# Altium footprint library QFP_Shrink_Sq_40P_Side_N.PcbLib: 26 footprints (part 1 of 3)
Each footprint in its own frame and in the unit in brackets; x right, y up, seen from the top. Pads: shape width x height; smd on the part's side, far side on the other; paste and mask are expansions set on the pad; w line width, h text height; cw(c..) or ccw(c..) is an arc to the next point about the centre after c.
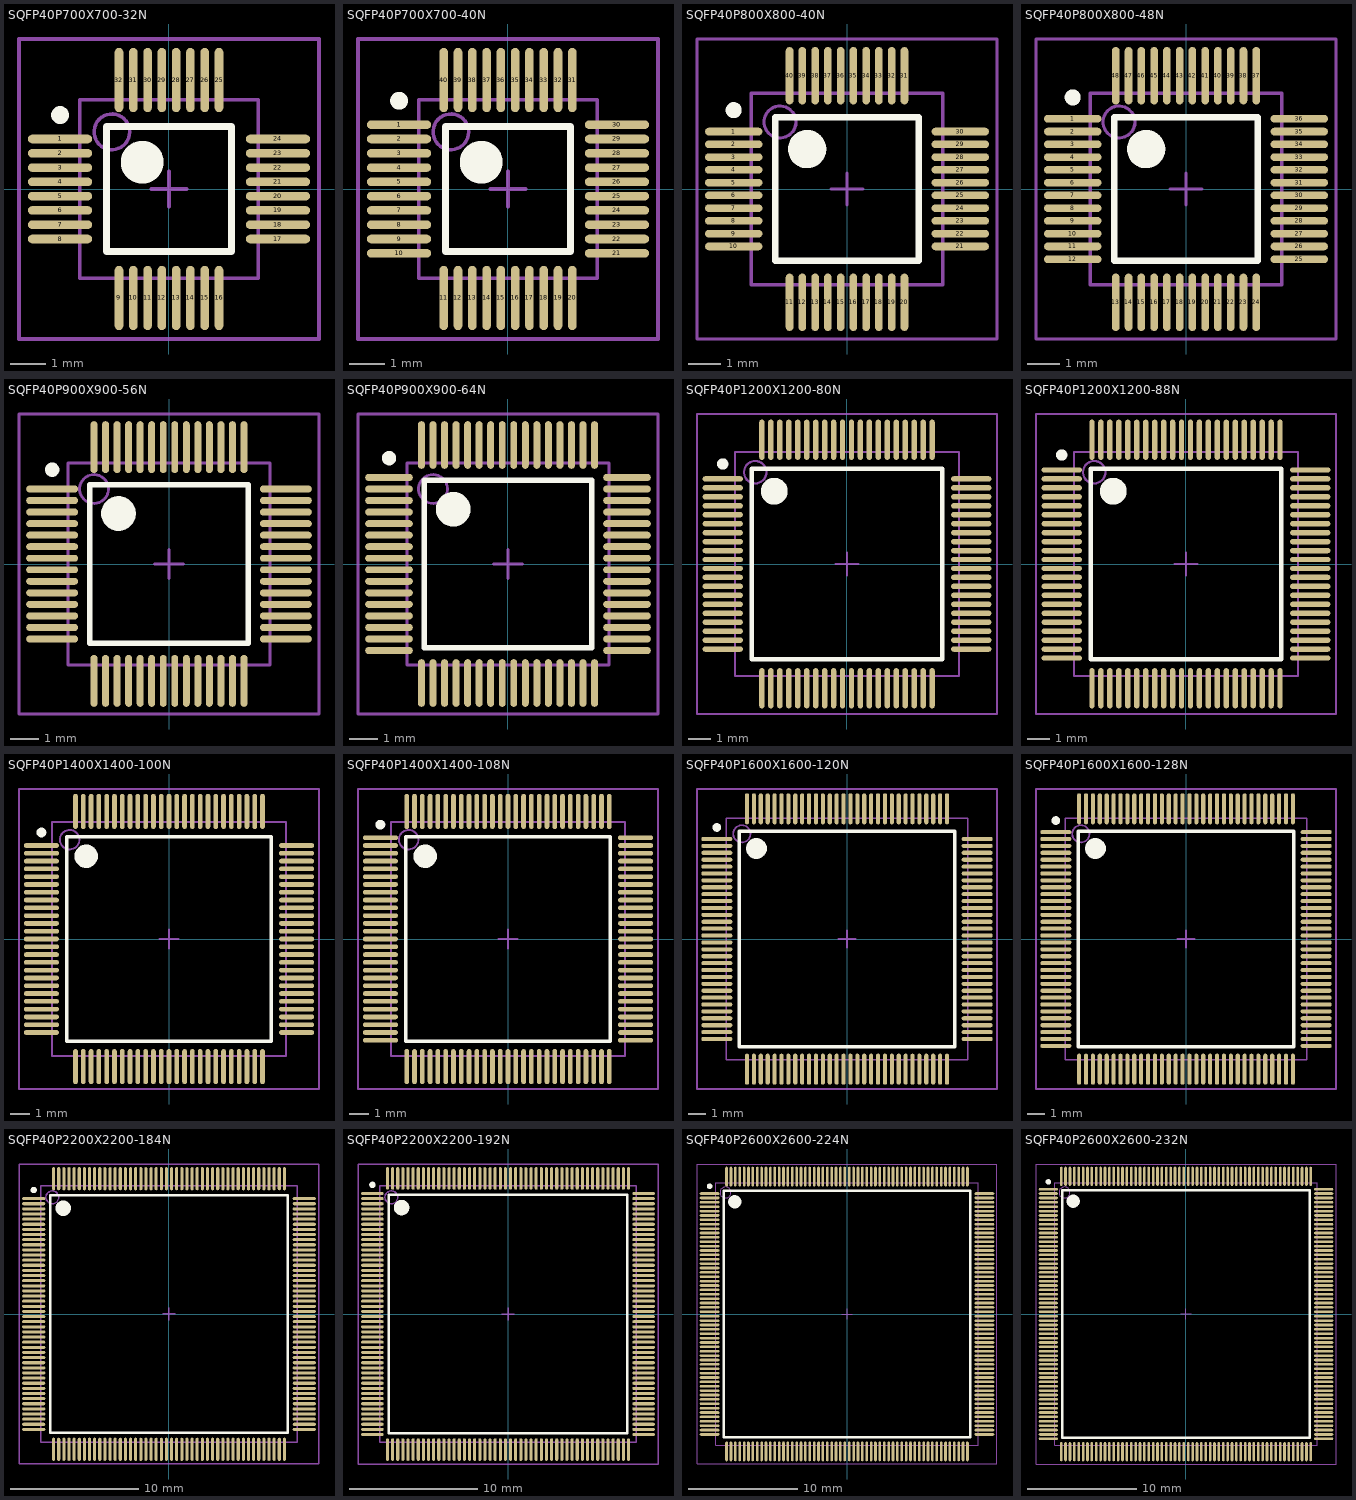
[diagram p0: the footprints below, top view; thin cyan lines are the x and y axes]

## SQFP40P700X700-32N [mm] "Shrink QFP, 32-Leads, Body 5x5mm, Pitch 0.4mm, IPC Medium Density"
height 1.7
pads (32):
  oval 1.8x0.24 smd: 1(-3.05,1.4) 2(-3.05,1) 3(-3.05,0.6) 4(-3.05,0.2) 5(-3.05,-0.2) 6(-3.05,-0.6) 7(-3.05,-1) 8(-3.05,-1.4) 17(3.05,-1.4) 18(3.05,-1) 19(3.05,-0.6) 20(3.05,-0.2) 21(3.05,0.2) 22(3.05,0.6) 23(3.05,1) 24(3.05,1.4)
  oval 0.24x1.8 smd: 9(-1.4,-3.05) 10(-1,-3.05) 11(-0.6,-3.05) 12(-0.2,-3.05) 13(0.2,-3.05) 14(0.6,-3.05) 15(1,-3.05) 16(1.4,-3.05) 25(1.4,3.05) 26(1,3.05) 27(0.6,3.05) 28(0.2,3.05) 29(-0.2,3.05) 30(-0.6,3.05) 31(-1,3.05) 32(-1.4,3.05)
Top Overlay:
  circle w0.6: c-0.75,0.75 r0.3
  circle w0.25: c-3.05,2.07 r0.125
  lines w0.2: -1.75,-1.75 1.75,-1.75 1.75,1.75 -1.75,1.75 -1.75,-1.75
Mechanical 13:
  circle w0.1: c-1.6,1.6 r0.5
  lines w0.1: -2.5,-2.5 2.5,-2.5 2.5,2.5 -2.5,2.5 -2.5,-2.5
Mechanical 15:
  lines w0.1: -0.5,0 0.5,0 ; 0,-0.5 0,0.5 ; -4.2,-4.2 4.2,-4.2 4.2,4.2 -4.2,4.2 -4.2,-4.2
3D body: height 1.7, standoff 0, extent -2.5,-2.5 2.5,2.5

## SQFP40P700X700-40N [mm] "Shrink QFP, 40-Leads, Body 5x5mm, Pitch 0.4mm, IPC Medium Density"
height 1.7
pads (40):
  oval 1.8x0.24 smd: 1(-3.05,1.8) 2(-3.05,1.4) 3(-3.05,1) 4(-3.05,0.6) 5(-3.05,0.2) 6(-3.05,-0.2) 7(-3.05,-0.6) 8(-3.05,-1) 9(-3.05,-1.4) 10(-3.05,-1.8) 21(3.05,-1.8) 22(3.05,-1.4) 23(3.05,-1) 24(3.05,-0.6) 25(3.05,-0.2) 26(3.05,0.2) 27(3.05,0.6) 28(3.05,1) 29(3.05,1.4) 30(3.05,1.8)
  oval 0.24x1.8 smd: 11(-1.8,-3.05) 12(-1.4,-3.05) 13(-1,-3.05) 14(-0.6,-3.05) 15(-0.2,-3.05) 16(0.2,-3.05) 17(0.6,-3.05) 18(1,-3.05) 19(1.4,-3.05) 20(1.8,-3.05) 31(1.8,3.05) 32(1.4,3.05) 33(1,3.05) 34(0.6,3.05) 35(0.2,3.05) 36(-0.2,3.05) 37(-0.6,3.05) 38(-1,3.05) 39(-1.4,3.05) 40(-1.8,3.05)
Top Overlay:
  circle w0.6: c-0.75,0.75 r0.3
  circle w0.25: c-3.05,2.47 r0.125
  lines w0.2: -1.75,-1.75 1.75,-1.75 1.75,1.75 -1.75,1.75 -1.75,-1.75
Mechanical 13:
  circle w0.1: c-1.6,1.6 r0.5
  lines w0.1: -2.5,-2.5 2.5,-2.5 2.5,2.5 -2.5,2.5 -2.5,-2.5
Mechanical 15:
  lines w0.1: -0.5,0 0.5,0 ; 0,-0.5 0,0.5 ; -4.2,-4.2 4.2,-4.2 4.2,4.2 -4.2,4.2 -4.2,-4.2
3D body: height 1.7, standoff 0, extent -2.5,-2.5 2.5,2.5

## SQFP40P800X800-40N [mm] "Shrink QFP, 40-Leads, Body 6x6mm, Pitch 0.4mm, IPC Medium Density"
height 1.7
pads (40):
  oval 1.8x0.24 smd: 1(-3.55,1.8) 2(-3.55,1.4) 3(-3.55,1) 4(-3.55,0.6) 5(-3.55,0.2) 6(-3.55,-0.2) 7(-3.55,-0.6) 8(-3.55,-1) 9(-3.55,-1.4) 10(-3.55,-1.8) 21(3.55,-1.8) 22(3.55,-1.4) 23(3.55,-1) 24(3.55,-0.6) 25(3.55,-0.2) 26(3.55,0.2) 27(3.55,0.6) 28(3.55,1) 29(3.55,1.4) 30(3.55,1.8)
  oval 0.24x1.8 smd: 11(-1.8,-3.55) 12(-1.4,-3.55) 13(-1,-3.55) 14(-0.6,-3.55) 15(-0.2,-3.55) 16(0.2,-3.55) 17(0.6,-3.55) 18(1,-3.55) 19(1.4,-3.55) 20(1.8,-3.55) 31(1.8,3.55) 32(1.4,3.55) 33(1,3.55) 34(0.6,3.55) 35(0.2,3.55) 36(-0.2,3.55) 37(-0.6,3.55) 38(-1,3.55) 39(-1.4,3.55) 40(-1.8,3.55)
Top Overlay:
  circle w0.6: c-1.25,1.25 r0.3
  circle w0.25: c-3.55,2.47 r0.125
  lines w0.2: -2.25,-2.25 2.25,-2.25 2.25,2.25 -2.25,2.25 -2.25,-2.25
Mechanical 13:
  circle w0.1: c-2.1,2.1 r0.5
  lines w0.1: -3,-3 3,-3 3,3 -3,3 -3,-3
Mechanical 15:
  lines w0.1: -0.5,0 0.5,0 ; 0,-0.5 0,0.5 ; -4.7,-4.7 4.7,-4.7 4.7,4.7 -4.7,4.7 -4.7,-4.7
3D body: height 1.7, standoff 0, extent -3,-3 3,3

## SQFP40P800X800-48N [mm] "Shrink QFP, 48-Leads, Body 6x6mm, Pitch 0.4mm, IPC Medium Density"
height 1.7
pads (48):
  oval 1.8x0.24 smd: 1(-3.55,2.2) 2(-3.55,1.8) 3(-3.55,1.4) 4(-3.55,1) 5(-3.55,0.6) 6(-3.55,0.2) 7(-3.55,-0.2) 8(-3.55,-0.6) 9(-3.55,-1) 10(-3.55,-1.4) 11(-3.55,-1.8) 12(-3.55,-2.2) 25(3.55,-2.2) 26(3.55,-1.8) 27(3.55,-1.4) 28(3.55,-1) 29(3.55,-0.6) 30(3.55,-0.2) 31(3.55,0.2) 32(3.55,0.6) 33(3.55,1) 34(3.55,1.4) 35(3.55,1.8) 36(3.55,2.2)
  oval 0.24x1.8 smd: 13(-2.2,-3.55) 14(-1.8,-3.55) 15(-1.4,-3.55) 16(-1,-3.55) 17(-0.6,-3.55) 18(-0.2,-3.55) 19(0.2,-3.55) 20(0.6,-3.55) 21(1,-3.55) 22(1.4,-3.55) 23(1.8,-3.55) 24(2.2,-3.55) 37(2.2,3.55) 38(1.8,3.55) 39(1.4,3.55) 40(1,3.55) 41(0.6,3.55) 42(0.2,3.55) 43(-0.2,3.55) 44(-0.6,3.55) 45(-1,3.55) 46(-1.4,3.55) 47(-1.8,3.55) 48(-2.2,3.55)
Top Overlay:
  circle w0.6: c-1.25,1.25 r0.3
  circle w0.25: c-3.55,2.87 r0.125
  lines w0.2: -2.25,-2.25 2.25,-2.25 2.25,2.25 -2.25,2.25 -2.25,-2.25
Mechanical 13:
  circle w0.1: c-2.1,2.1 r0.5
  lines w0.1: -3,-3 3,-3 3,3 -3,3 -3,-3
Mechanical 15:
  lines w0.1: -0.5,0 0.5,0 ; 0,-0.5 0,0.5 ; -4.7,-4.7 4.7,-4.7 4.7,4.7 -4.7,4.7 -4.7,-4.7
3D body: height 1.7, standoff 0, extent -3,-3 3,3

## SQFP40P900X900-56N [mm] "Shrink QFP, 56-Leads, Body 7x7mm, Pitch 0.4mm, IPC Medium Density"
height 1.7
pads (56):
  oval 1.8x0.24 smd: 1(-4.05,2.6) 2(-4.05,2.2) 3(-4.05,1.8) 4(-4.05,1.4) 5(-4.05,1) 6(-4.05,0.6) 7(-4.05,0.2) 8(-4.05,-0.2) 9(-4.05,-0.6) 10(-4.05,-1) 11(-4.05,-1.4) 12(-4.05,-1.8) 13(-4.05,-2.2) 14(-4.05,-2.6) 29(4.05,-2.6) 30(4.05,-2.2) 31(4.05,-1.8) 32(4.05,-1.4) 33(4.05,-1) 34(4.05,-0.6) 35(4.05,-0.2) 36(4.05,0.2) 37(4.05,0.6) 38(4.05,1) 39(4.05,1.4) 40(4.05,1.8) 41(4.05,2.2) 42(4.05,2.6)
  oval 0.24x1.8 smd: 15(-2.6,-4.05) 16(-2.2,-4.05) 17(-1.8,-4.05) 18(-1.4,-4.05) 19(-1,-4.05) 20(-0.6,-4.05) 21(-0.2,-4.05) 22(0.2,-4.05) 23(0.6,-4.05) 24(1,-4.05) 25(1.4,-4.05) 26(1.8,-4.05) 27(2.2,-4.05) 28(2.6,-4.05) 43(2.6,4.05) 44(2.2,4.05) 45(1.8,4.05) 46(1.4,4.05) 47(1,4.05) 48(0.6,4.05) 49(0.2,4.05) 50(-0.2,4.05) 51(-0.6,4.05) 52(-1,4.05) 53(-1.4,4.05) 54(-1.8,4.05) 55(-2.2,4.05) 56(-2.6,4.05)
Top Overlay:
  circle w0.6: c-1.75,1.75 r0.3
  circle w0.25: c-4.05,3.27 r0.125
  lines w0.2: -2.75,-2.75 2.75,-2.75 2.75,2.75 -2.75,2.75 -2.75,-2.75
Mechanical 13:
  circle w0.1: c-2.6,2.6 r0.5
  lines w0.1: -3.5,-3.5 3.5,-3.5 3.5,3.5 -3.5,3.5 -3.5,-3.5
Mechanical 15:
  lines w0.1: -0.5,0 0.5,0 ; 0,-0.5 0,0.5 ; -5.2,-5.2 5.2,-5.2 5.2,5.2 -5.2,5.2 -5.2,-5.2
3D body: height 1.7, standoff 0, extent -3.5,-3.5 3.5,3.5

## SQFP40P900X900-64N [mm] "Shrink QFP, 64-Leads, Body 7x7mm, Pitch 0.4mm, IPC Medium Density"
height 1.7
pads (64):
  oval 1.65x0.24 smd: 1(-4.125,3) 2(-4.125,2.6) 3(-4.125,2.2) 4(-4.125,1.8) 5(-4.125,1.4) 6(-4.125,1) 7(-4.125,0.6) 8(-4.125,0.2) 9(-4.125,-0.2) 10(-4.125,-0.6) 11(-4.125,-1) 12(-4.125,-1.4) 13(-4.125,-1.8) 14(-4.125,-2.2) 15(-4.125,-2.6) 16(-4.125,-3) 33(4.125,-3) 34(4.125,-2.6) 35(4.125,-2.2) 36(4.125,-1.8) 37(4.125,-1.4) 38(4.125,-1) 39(4.125,-0.6) 40(4.125,-0.2) 41(4.125,0.2) 42(4.125,0.6) 43(4.125,1) 44(4.125,1.4) 45(4.125,1.8) 46(4.125,2.2) 47(4.125,2.6) 48(4.125,3)
  oval 0.24x1.65 smd: 17(-3,-4.125) 18(-2.6,-4.125) 19(-2.2,-4.125) 20(-1.8,-4.125) 21(-1.4,-4.125) 22(-1,-4.125) 23(-0.6,-4.125) 24(-0.2,-4.125) 25(0.2,-4.125) 26(0.6,-4.125) 27(1,-4.125) 28(1.4,-4.125) 29(1.8,-4.125) 30(2.2,-4.125) 31(2.6,-4.125) 32(3,-4.125) 49(3,4.125) 50(2.6,4.125) 51(2.2,4.125) 52(1.8,4.125) 53(1.4,4.125) 54(1,4.125) 55(0.6,4.125) 56(0.2,4.125) 57(-0.2,4.125) 58(-0.6,4.125) 59(-1,4.125) 60(-1.4,4.125) 61(-1.8,4.125) 62(-2.2,4.125) 63(-2.6,4.125) 64(-3,4.125)
Top Overlay:
  circle w0.6: c-1.9,1.9 r0.3
  circle w0.25: c-4.125,3.67 r0.125
  lines w0.2: -2.9,-2.9 2.9,-2.9 2.9,2.9 -2.9,2.9 -2.9,-2.9
Mechanical 13:
  circle w0.1: c-2.6,2.6 r0.5
  lines w0.1: -3.5,-3.5 3.5,-3.5 3.5,3.5 -3.5,3.5 -3.5,-3.5
Mechanical 15:
  lines w0.1: -0.5,0 0.5,0 ; 0,-0.5 0,0.5 ; -5.2,-5.2 5.2,-5.2 5.2,5.2 -5.2,5.2 -5.2,-5.2
3D body: height 1.7, standoff 0, extent -3.5,-3.5 3.5,3.5

## SQFP40P1200X1200-80N [mm] "Shrink QFP, 80-Leads, Body 10x10mm, Pitch 0.4mm, IPC Medium Density"
height 2.2
pads (80):
  oval 1.8x0.24 smd: 1(-5.55,3.8) 2(-5.55,3.4) 3(-5.55,3) 4(-5.55,2.6) 5(-5.55,2.2) 6(-5.55,1.8) 7(-5.55,1.4) 8(-5.55,1) 9(-5.55,0.6) 10(-5.55,0.2) 11(-5.55,-0.2) 12(-5.55,-0.6) 13(-5.55,-1) 14(-5.55,-1.4) 15(-5.55,-1.8) 16(-5.55,-2.2) 17(-5.55,-2.6) 18(-5.55,-3) 19(-5.55,-3.4) 20(-5.55,-3.8) 41(5.55,-3.8) 42(5.55,-3.4) 43(5.55,-3) 44(5.55,-2.6) 45(5.55,-2.2) 46(5.55,-1.8) 47(5.55,-1.4) 48(5.55,-1) 49(5.55,-0.6) 50(5.55,-0.2) 51(5.55,0.2) 52(5.55,0.6) 53(5.55,1) 54(5.55,1.4) 55(5.55,1.8) 56(5.55,2.2) 57(5.55,2.6) 58(5.55,3) 59(5.55,3.4) 60(5.55,3.8)
  oval 0.24x1.8 smd: 21(-3.8,-5.55) 22(-3.4,-5.55) 23(-3,-5.55) 24(-2.6,-5.55) 25(-2.2,-5.55) 26(-1.8,-5.55) 27(-1.4,-5.55) 28(-1,-5.55) 29(-0.6,-5.55) 30(-0.2,-5.55) 31(0.2,-5.55) 32(0.6,-5.55) 33(1,-5.55) 34(1.4,-5.55) 35(1.8,-5.55) 36(2.2,-5.55) 37(2.6,-5.55) 38(3,-5.55) 39(3.4,-5.55) 40(3.8,-5.55) 61(3.8,5.55) 62(3.4,5.55) 63(3,5.55) 64(2.6,5.55) 65(2.2,5.55) 66(1.8,5.55) 67(1.4,5.55) 68(1,5.55) 69(0.6,5.55) 70(0.2,5.55) 71(-0.2,5.55) 72(-0.6,5.55) 73(-1,5.55) 74(-1.4,5.55) 75(-1.8,5.55) 76(-2.2,5.55) 77(-2.6,5.55) 78(-3,5.55) 79(-3.4,5.55) 80(-3.8,5.55)
Top Overlay:
  circle w0.6: c-3.25,3.25 r0.3
  circle w0.25: c-5.55,4.47 r0.125
  lines w0.2: -4.25,-4.25 4.25,-4.25 4.25,4.25 -4.25,4.25 -4.25,-4.25
Mechanical 13:
  circle w0.1: c-4.1,4.1 r0.5
  lines w0.1: -5,-5 5,-5 5,5 -5,5 -5,-5
Mechanical 15:
  lines w0.1: -0.5,0 0.5,0 ; 0,-0.5 0,0.5 ; -6.7,-6.7 6.7,-6.7 6.7,6.7 -6.7,6.7 -6.7,-6.7
3D body: height 2.2, standoff 0, extent -5,-5 5,5

## SQFP40P1200X1200-88N [mm] "Shrink QFP, 88-Leads, Body 10x10mm, Pitch 0.4mm, IPC Medium Density"
height 2.2
pads (88):
  oval 1.8x0.24 smd: 1(-5.55,4.2) 2(-5.55,3.8) 3(-5.55,3.4) 4(-5.55,3) 5(-5.55,2.6) 6(-5.55,2.2) 7(-5.55,1.8) 8(-5.55,1.4) 9(-5.55,1) 10(-5.55,0.6) 11(-5.55,0.2) 12(-5.55,-0.2) 13(-5.55,-0.6) 14(-5.55,-1) 15(-5.55,-1.4) 16(-5.55,-1.8) 17(-5.55,-2.2) 18(-5.55,-2.6) 19(-5.55,-3) 20(-5.55,-3.4) 21(-5.55,-3.8) 22(-5.55,-4.2) 45(5.55,-4.2) 46(5.55,-3.8) 47(5.55,-3.4) 48(5.55,-3) 49(5.55,-2.6) 50(5.55,-2.2) 51(5.55,-1.8) 52(5.55,-1.4) 53(5.55,-1) 54(5.55,-0.6) 55(5.55,-0.2) 56(5.55,0.2) 57(5.55,0.6) 58(5.55,1) 59(5.55,1.4) 60(5.55,1.8) 61(5.55,2.2) 62(5.55,2.6) 63(5.55,3) 64(5.55,3.4) 65(5.55,3.8) 66(5.55,4.2)
  oval 0.24x1.8 smd: 23(-4.2,-5.55) 24(-3.8,-5.55) 25(-3.4,-5.55) 26(-3,-5.55) 27(-2.6,-5.55) 28(-2.2,-5.55) 29(-1.8,-5.55) 30(-1.4,-5.55) 31(-1,-5.55) 32(-0.6,-5.55) 33(-0.2,-5.55) 34(0.2,-5.55) 35(0.6,-5.55) 36(1,-5.55) 37(1.4,-5.55) 38(1.8,-5.55) 39(2.2,-5.55) 40(2.6,-5.55) 41(3,-5.55) 42(3.4,-5.55) 43(3.8,-5.55) 44(4.2,-5.55) 67(4.2,5.55) 68(3.8,5.55) 69(3.4,5.55) 70(3,5.55) 71(2.6,5.55) 72(2.2,5.55) 73(1.8,5.55) 74(1.4,5.55) 75(1,5.55) 76(0.6,5.55) 77(0.2,5.55) 78(-0.2,5.55) 79(-0.6,5.55) 80(-1,5.55) 81(-1.4,5.55) 82(-1.8,5.55) 83(-2.2,5.55) 84(-2.6,5.55) 85(-3,5.55) 86(-3.4,5.55) 87(-3.8,5.55) 88(-4.2,5.55)
Top Overlay:
  circle w0.6: c-3.25,3.25 r0.3
  circle w0.25: c-5.55,4.87 r0.125
  lines w0.2: -4.25,-4.25 4.25,-4.25 4.25,4.25 -4.25,4.25 -4.25,-4.25
Mechanical 13:
  circle w0.1: c-4.1,4.1 r0.5
  lines w0.1: -5,-5 5,-5 5,5 -5,5 -5,-5
Mechanical 15:
  lines w0.1: -0.5,0 0.5,0 ; 0,-0.5 0,0.5 ; -6.7,-6.7 6.7,-6.7 6.7,6.7 -6.7,6.7 -6.7,-6.7
3D body: height 2.2, standoff 0, extent -5,-5 5,5

## SQFP40P1400X1400-100N [mm] "Shrink QFP, 100-Leads, Body 12x12mm, Pitch 0.4mm, IPC Medium Density"
height 2.2
pads (100):
  oval 1.8x0.24 smd: 1(-6.55,4.8) 2(-6.55,4.4) 3(-6.55,4) 4(-6.55,3.6) 5(-6.55,3.2) 6(-6.55,2.8) 7(-6.55,2.4) 8(-6.55,2) 9(-6.55,1.6) 10(-6.55,1.2) 11(-6.55,0.8) 12(-6.55,0.4) 13(-6.55,0) 14(-6.55,-0.4) 15(-6.55,-0.8) 16(-6.55,-1.2) 17(-6.55,-1.6) 18(-6.55,-2) 19(-6.55,-2.4) 20(-6.55,-2.8) 21(-6.55,-3.2) 22(-6.55,-3.6) 23(-6.55,-4) 24(-6.55,-4.4) 25(-6.55,-4.8) 51(6.55,-4.8) 52(6.55,-4.4) 53(6.55,-4) 54(6.55,-3.6) 55(6.55,-3.2) 56(6.55,-2.8) 57(6.55,-2.4) 58(6.55,-2) 59(6.55,-1.6) 60(6.55,-1.2) 61(6.55,-0.8) 62(6.55,-0.4) 63(6.55,0) 64(6.55,0.4) 65(6.55,0.8) 66(6.55,1.2) 67(6.55,1.6) 68(6.55,2) 69(6.55,2.4) 70(6.55,2.8) 71(6.55,3.2) 72(6.55,3.6) 73(6.55,4) 74(6.55,4.4) 75(6.55,4.8)
  oval 0.24x1.8 smd: 26(-4.8,-6.55) 27(-4.4,-6.55) 28(-4,-6.55) 29(-3.6,-6.55) 30(-3.2,-6.55) 31(-2.8,-6.55) 32(-2.4,-6.55) 33(-2,-6.55) 34(-1.6,-6.55) 35(-1.2,-6.55) 36(-0.8,-6.55) 37(-0.4,-6.55) 38(0,-6.55) 39(0.4,-6.55) 40(0.8,-6.55) 41(1.2,-6.55) 42(1.6,-6.55) 43(2,-6.55) 44(2.4,-6.55) 45(2.8,-6.55) 46(3.2,-6.55) 47(3.6,-6.55) 48(4,-6.55) 49(4.4,-6.55) 50(4.8,-6.55) 76(4.8,6.55) 77(4.4,6.55) 78(4,6.55) 79(3.6,6.55) 80(3.2,6.55) 81(2.8,6.55) 82(2.4,6.55) 83(2,6.55) 84(1.6,6.55) 85(1.2,6.55) 86(0.8,6.55) 87(0.4,6.55) 88(0,6.55) 89(-0.4,6.55) 90(-0.8,6.55) 91(-1.2,6.55) 92(-1.6,6.55) 93(-2,6.55) 94(-2.4,6.55) 95(-2.8,6.55) 96(-3.2,6.55) 97(-3.6,6.55) 98(-4,6.55) 99(-4.4,6.55) 100(-4.8,6.55)
Top Overlay:
  circle w0.6: c-4.25,4.25 r0.3
  circle w0.25: c-6.55,5.47 r0.125
  lines w0.2: -5.25,-5.25 5.25,-5.25 5.25,5.25 -5.25,5.25 -5.25,-5.25
Mechanical 13:
  circle w0.1: c-5.1,5.1 r0.5
  lines w0.1: -6,-6 6,-6 6,6 -6,6 -6,-6
Mechanical 15:
  lines w0.1: -0.5,0 0.5,0 ; 0,-0.5 0,0.5 ; -7.7,-7.7 7.7,-7.7 7.7,7.7 -7.7,7.7 -7.7,-7.7
3D body: height 2.2, standoff 0, extent -6,-6 6,6

## SQFP40P1400X1400-108N [mm] "Shrink QFP, 108-Leads, Body 12x12mm, Pitch 0.4mm, IPC Medium Density"
height 2.2
pads (108):
  oval 1.8x0.24 smd: 1(-6.55,5.2) 2(-6.55,4.8) 3(-6.55,4.4) 4(-6.55,4) 5(-6.55,3.6) 6(-6.55,3.2) 7(-6.55,2.8) 8(-6.55,2.4) 9(-6.55,2) 10(-6.55,1.6) 11(-6.55,1.2) 12(-6.55,0.8) 13(-6.55,0.4) 14(-6.55,0) 15(-6.55,-0.4) 16(-6.55,-0.8) 17(-6.55,-1.2) 18(-6.55,-1.6) 19(-6.55,-2) 20(-6.55,-2.4) 21(-6.55,-2.8) 22(-6.55,-3.2) 23(-6.55,-3.6) 24(-6.55,-4) 25(-6.55,-4.4) 26(-6.55,-4.8) 27(-6.55,-5.2) 55(6.55,-5.2) 56(6.55,-4.8) 57(6.55,-4.4) 58(6.55,-4) 59(6.55,-3.6) 60(6.55,-3.2) 61(6.55,-2.8) 62(6.55,-2.4) 63(6.55,-2) 64(6.55,-1.6) 65(6.55,-1.2) 66(6.55,-0.8) 67(6.55,-0.4) 68(6.55,0) 69(6.55,0.4) 70(6.55,0.8) 71(6.55,1.2) 72(6.55,1.6) 73(6.55,2) 74(6.55,2.4) 75(6.55,2.8) 76(6.55,3.2) 77(6.55,3.6) 78(6.55,4) 79(6.55,4.4) 80(6.55,4.8) 81(6.55,5.2)
  oval 0.24x1.8 smd: 28(-5.2,-6.55) 29(-4.8,-6.55) 30(-4.4,-6.55) 31(-4,-6.55) 32(-3.6,-6.55) 33(-3.2,-6.55) 34(-2.8,-6.55) 35(-2.4,-6.55) 36(-2,-6.55) 37(-1.6,-6.55) 38(-1.2,-6.55) 39(-0.8,-6.55) 40(-0.4,-6.55) 41(0,-6.55) 42(0.4,-6.55) 43(0.8,-6.55) 44(1.2,-6.55) 45(1.6,-6.55) 46(2,-6.55) 47(2.4,-6.55) 48(2.8,-6.55) 49(3.2,-6.55) 50(3.6,-6.55) 51(4,-6.55) 52(4.4,-6.55) 53(4.8,-6.55) 54(5.2,-6.55) 82(5.2,6.55) 83(4.8,6.55) 84(4.4,6.55) 85(4,6.55) 86(3.6,6.55) 87(3.2,6.55) 88(2.8,6.55) 89(2.4,6.55) 90(2,6.55) 91(1.6,6.55) 92(1.2,6.55) 93(0.8,6.55) 94(0.4,6.55) 95(0,6.55) 96(-0.4,6.55) 97(-0.8,6.55) 98(-1.2,6.55) 99(-1.6,6.55) 100(-2,6.55) 101(-2.4,6.55) 102(-2.8,6.55) 103(-3.2,6.55) 104(-3.6,6.55) 105(-4,6.55) 106(-4.4,6.55) 107(-4.8,6.55) 108(-5.2,6.55)
Top Overlay:
  circle w0.6: c-4.25,4.25 r0.3
  circle w0.25: c-6.55,5.87 r0.125
  lines w0.2: -5.25,-5.25 5.25,-5.25 5.25,5.25 -5.25,5.25 -5.25,-5.25
Mechanical 13:
  circle w0.1: c-5.1,5.1 r0.5
  lines w0.1: -6,-6 6,-6 6,6 -6,6 -6,-6
Mechanical 15:
  lines w0.1: -0.5,0 0.5,0 ; 0,-0.5 0,0.5 ; -7.7,-7.7 7.7,-7.7 7.7,7.7 -7.7,7.7 -7.7,-7.7
3D body: height 2.2, standoff 0, extent -6,-6 6,6

## SQFP40P1600X1600-120N [mm] "Shrink QFP, 120-Leads, Body 14x14mm, Pitch 0.4mm, IPC Medium Density"
height 2.2
pads (120):
  oval 1.8x0.24 smd: 1(-7.55,5.8) 2(-7.55,5.4) 3(-7.55,5) 4(-7.55,4.6) 5(-7.55,4.2) 6(-7.55,3.8) 7(-7.55,3.4) 8(-7.55,3) 9(-7.55,2.6) 10(-7.55,2.2) 11(-7.55,1.8) 12(-7.55,1.4) 13(-7.55,1) 14(-7.55,0.6) 15(-7.55,0.2) 16(-7.55,-0.2) 17(-7.55,-0.6) 18(-7.55,-1) 19(-7.55,-1.4) 20(-7.55,-1.8) 21(-7.55,-2.2) 22(-7.55,-2.6) 23(-7.55,-3) 24(-7.55,-3.4) 25(-7.55,-3.8) 26(-7.55,-4.2) 27(-7.55,-4.6) 28(-7.55,-5) 29(-7.55,-5.4) 30(-7.55,-5.8) 61(7.55,-5.8) 62(7.55,-5.4) 63(7.55,-5) 64(7.55,-4.6) 65(7.55,-4.2) 66(7.55,-3.8) 67(7.55,-3.4) 68(7.55,-3) 69(7.55,-2.6) 70(7.55,-2.2) 71(7.55,-1.8) 72(7.55,-1.4) 73(7.55,-1) 74(7.55,-0.6) 75(7.55,-0.2) 76(7.55,0.2) 77(7.55,0.6) 78(7.55,1) 79(7.55,1.4) 80(7.55,1.8) 81(7.55,2.2) 82(7.55,2.6) 83(7.55,3) 84(7.55,3.4) 85(7.55,3.8) 86(7.55,4.2) 87(7.55,4.6) 88(7.55,5) 89(7.55,5.4) 90(7.55,5.8)
  oval 0.24x1.8 smd: 31(-5.8,-7.55) 32(-5.4,-7.55) 33(-5,-7.55) 34(-4.6,-7.55) 35(-4.2,-7.55) 36(-3.8,-7.55) 37(-3.4,-7.55) 38(-3,-7.55) 39(-2.6,-7.55) 40(-2.2,-7.55) 41(-1.8,-7.55) 42(-1.4,-7.55) 43(-1,-7.55) 44(-0.6,-7.55) 45(-0.2,-7.55) 46(0.2,-7.55) 47(0.6,-7.55) 48(1,-7.55) 49(1.4,-7.55) 50(1.8,-7.55) 51(2.2,-7.55) 52(2.6,-7.55) 53(3,-7.55) 54(3.4,-7.55) 55(3.8,-7.55) 56(4.2,-7.55) 57(4.6,-7.55) 58(5,-7.55) 59(5.4,-7.55) 60(5.8,-7.55) 91(5.8,7.55) 92(5.4,7.55) 93(5,7.55) 94(4.6,7.55) 95(4.2,7.55) 96(3.8,7.55) 97(3.4,7.55) 98(3,7.55) 99(2.6,7.55) 100(2.2,7.55) 101(1.8,7.55) 102(1.4,7.55) 103(1,7.55) 104(0.6,7.55) 105(0.2,7.55) 106(-0.2,7.55) 107(-0.6,7.55) 108(-1,7.55) 109(-1.4,7.55) 110(-1.8,7.55) 111(-2.2,7.55) 112(-2.6,7.55) 113(-3,7.55) 114(-3.4,7.55) 115(-3.8,7.55) 116(-4.2,7.55) 117(-4.6,7.55) 118(-5,7.55) 119(-5.4,7.55) 120(-5.8,7.55)
Top Overlay:
  circle w0.6: c-5.25,5.25 r0.3
  circle w0.25: c-7.55,6.47 r0.125
  lines w0.2: -6.25,-6.25 6.25,-6.25 6.25,6.25 -6.25,6.25 -6.25,-6.25
Mechanical 13:
  circle w0.1: c-6.1,6.1 r0.5
  lines w0.1: -7,-7 7,-7 7,7 -7,7 -7,-7
Mechanical 15:
  lines w0.1: -0.5,0 0.5,0 ; 0,-0.5 0,0.5 ; -8.7,-8.7 8.7,-8.7 8.7,8.7 -8.7,8.7 -8.7,-8.7
3D body: height 2.2, standoff 0, extent -7,-7 7,7

## SQFP40P1600X1600-128N [mm] "Shrink QFP, 128-Leads, Body 14x14mm, Pitch 0.4mm, IPC Medium Density"
height 2.2
pads (128):
  oval 1.8x0.24 smd: 1(-7.55,6.2) 2(-7.55,5.8) 3(-7.55,5.4) 4(-7.55,5) 5(-7.55,4.6) 6(-7.55,4.2) 7(-7.55,3.8) 8(-7.55,3.4) 9(-7.55,3) 10(-7.55,2.6) 11(-7.55,2.2) 12(-7.55,1.8) 13(-7.55,1.4) 14(-7.55,1) 15(-7.55,0.6) 16(-7.55,0.2) 17(-7.55,-0.2) 18(-7.55,-0.6) 19(-7.55,-1) 20(-7.55,-1.4) 21(-7.55,-1.8) 22(-7.55,-2.2) 23(-7.55,-2.6) 24(-7.55,-3) 25(-7.55,-3.4) 26(-7.55,-3.8) 27(-7.55,-4.2) 28(-7.55,-4.6) 29(-7.55,-5) 30(-7.55,-5.4) 31(-7.55,-5.8) 32(-7.55,-6.2) 65(7.55,-6.2) 66(7.55,-5.8) 67(7.55,-5.4) 68(7.55,-5) 69(7.55,-4.6) 70(7.55,-4.2) 71(7.55,-3.8) 72(7.55,-3.4) 73(7.55,-3) 74(7.55,-2.6) 75(7.55,-2.2) 76(7.55,-1.8) 77(7.55,-1.4) 78(7.55,-1) 79(7.55,-0.6) 80(7.55,-0.2) 81(7.55,0.2) 82(7.55,0.6) 83(7.55,1) 84(7.55,1.4) 85(7.55,1.8) 86(7.55,2.2) 87(7.55,2.6) 88(7.55,3) 89(7.55,3.4) 90(7.55,3.8) 91(7.55,4.2) 92(7.55,4.6) 93(7.55,5) 94(7.55,5.4) 95(7.55,5.8) 96(7.55,6.2)
  oval 0.24x1.8 smd: 33(-6.2,-7.55) 34(-5.8,-7.55) 35(-5.4,-7.55) 36(-5,-7.55) 37(-4.6,-7.55) 38(-4.2,-7.55) 39(-3.8,-7.55) 40(-3.4,-7.55) 41(-3,-7.55) 42(-2.6,-7.55) 43(-2.2,-7.55) 44(-1.8,-7.55) 45(-1.4,-7.55) 46(-1,-7.55) 47(-0.6,-7.55) 48(-0.2,-7.55) 49(0.2,-7.55) 50(0.6,-7.55) 51(1,-7.55) 52(1.4,-7.55) 53(1.8,-7.55) 54(2.2,-7.55) 55(2.6,-7.55) 56(3,-7.55) 57(3.4,-7.55) 58(3.8,-7.55) 59(4.2,-7.55) 60(4.6,-7.55) 61(5,-7.55) 62(5.4,-7.55) 63(5.8,-7.55) 64(6.2,-7.55) 97(6.2,7.55) 98(5.8,7.55) 99(5.4,7.55) 100(5,7.55) 101(4.6,7.55) 102(4.2,7.55) 103(3.8,7.55) 104(3.4,7.55) 105(3,7.55) 106(2.6,7.55) 107(2.2,7.55) 108(1.8,7.55) 109(1.4,7.55) 110(1,7.55) 111(0.6,7.55) 112(0.2,7.55) 113(-0.2,7.55) 114(-0.6,7.55) 115(-1,7.55) 116(-1.4,7.55) 117(-1.8,7.55) 118(-2.2,7.55) 119(-2.6,7.55) 120(-3,7.55) 121(-3.4,7.55) 122(-3.8,7.55) 123(-4.2,7.55) 124(-4.6,7.55) 125(-5,7.55) 126(-5.4,7.55) 127(-5.8,7.55) 128(-6.2,7.55)
Top Overlay:
  circle w0.6: c-5.25,5.25 r0.3
  circle w0.25: c-7.55,6.87 r0.125
  lines w0.2: -6.25,-6.25 6.25,-6.25 6.25,6.25 -6.25,6.25 -6.25,-6.25
Mechanical 13:
  circle w0.1: c-6.1,6.1 r0.5
  lines w0.1: -7,-7 7,-7 7,7 -7,7 -7,-7
Mechanical 15:
  lines w0.1: -0.5,0 0.5,0 ; 0,-0.5 0,0.5 ; -8.7,-8.7 8.7,-8.7 8.7,8.7 -8.7,8.7 -8.7,-8.7
3D body: height 2.2, standoff 0, extent -7,-7 7,7

## SQFP40P2200X2200-184N [mm] "Shrink QFP, 184-Leads, Body 20x20mm, Pitch 0.4mm, IPC Medium Density"
height 2.7
pads (184):
  oval 1.8x0.24 smd: 1(-10.55,9) 2(-10.55,8.6) 3(-10.55,8.2) 4(-10.55,7.8) 5(-10.55,7.4) 6(-10.55,7) 7(-10.55,6.6) 8(-10.55,6.2) 9(-10.55,5.8) 10(-10.55,5.4) 11(-10.55,5) 12(-10.55,4.6) 13(-10.55,4.2) 14(-10.55,3.8) 15(-10.55,3.4) 16(-10.55,3) 17(-10.55,2.6) 18(-10.55,2.2) 19(-10.55,1.8) 20(-10.55,1.4) 21(-10.55,1) 22(-10.55,0.6) 23(-10.55,0.2) 24(-10.55,-0.2) 25(-10.55,-0.6) 26(-10.55,-1) 27(-10.55,-1.4) 28(-10.55,-1.8) 29(-10.55,-2.2) 30(-10.55,-2.6) 31(-10.55,-3) 32(-10.55,-3.4) 33(-10.55,-3.8) 34(-10.55,-4.2) 35(-10.55,-4.6) 36(-10.55,-5) 37(-10.55,-5.4) 38(-10.55,-5.8) 39(-10.55,-6.2) 40(-10.55,-6.6) 41(-10.55,-7) 42(-10.55,-7.4) 43(-10.55,-7.8) 44(-10.55,-8.2) 45(-10.55,-8.6) 46(-10.55,-9) 93(10.55,-9) 94(10.55,-8.6) 95(10.55,-8.2) 96(10.55,-7.8) 97(10.55,-7.4) 98(10.55,-7) 99(10.55,-6.6) 100(10.55,-6.2) 101(10.55,-5.8) 102(10.55,-5.4) 103(10.55,-5) 104(10.55,-4.6) 105(10.55,-4.2) 106(10.55,-3.8) 107(10.55,-3.4) 108(10.55,-3) 109(10.55,-2.6) 110(10.55,-2.2) 111(10.55,-1.8) 112(10.55,-1.4) 113(10.55,-1) 114(10.55,-0.6) 115(10.55,-0.2) 116(10.55,0.2) 117(10.55,0.6) 118(10.55,1) 119(10.55,1.4) 120(10.55,1.8) 121(10.55,2.2) 122(10.55,2.6) 123(10.55,3) 124(10.55,3.4) 125(10.55,3.8) 126(10.55,4.2) 127(10.55,4.6) 128(10.55,5) 129(10.55,5.4) 130(10.55,5.8) 131(10.55,6.2) 132(10.55,6.6) 133(10.55,7) 134(10.55,7.4) 135(10.55,7.8) 136(10.55,8.2) 137(10.55,8.6) 138(10.55,9)
  oval 0.24x1.8 smd: 47(-9,-10.55) 48(-8.6,-10.55) 49(-8.2,-10.55) 50(-7.8,-10.55) 51(-7.4,-10.55) 52(-7,-10.55) 53(-6.6,-10.55) 54(-6.2,-10.55) 55(-5.8,-10.55) 56(-5.4,-10.55) 57(-5,-10.55) 58(-4.6,-10.55) 59(-4.2,-10.55) 60(-3.8,-10.55) 61(-3.4,-10.55) 62(-3,-10.55) 63(-2.6,-10.55) 64(-2.2,-10.55) 65(-1.8,-10.55) 66(-1.4,-10.55) 67(-1,-10.55) 68(-0.6,-10.55) 69(-0.2,-10.55) 70(0.2,-10.55) 71(0.6,-10.55) 72(1,-10.55) 73(1.4,-10.55) 74(1.8,-10.55) 75(2.2,-10.55) 76(2.6,-10.55) 77(3,-10.55) 78(3.4,-10.55) 79(3.8,-10.55) 80(4.2,-10.55) 81(4.6,-10.55) 82(5,-10.55) 83(5.4,-10.55) 84(5.8,-10.55) 85(6.2,-10.55) 86(6.6,-10.55) 87(7,-10.55) 88(7.4,-10.55) 89(7.8,-10.55) 90(8.2,-10.55) 91(8.6,-10.55) 92(9,-10.55) 139(9,10.55) 140(8.6,10.55) 141(8.2,10.55) 142(7.8,10.55) 143(7.4,10.55) 144(7,10.55) 145(6.6,10.55) 146(6.2,10.55) 147(5.8,10.55) 148(5.4,10.55) 149(5,10.55) 150(4.6,10.55) 151(4.2,10.55) 152(3.8,10.55) 153(3.4,10.55) 154(3,10.55) 155(2.6,10.55) 156(2.2,10.55) 157(1.8,10.55) 158(1.4,10.55) 159(1,10.55) 160(0.6,10.55) 161(0.2,10.55) 162(-0.2,10.55) 163(-0.6,10.55) 164(-1,10.55) 165(-1.4,10.55) 166(-1.8,10.55) 167(-2.2,10.55) 168(-2.6,10.55) 169(-3,10.55) 170(-3.4,10.55) 171(-3.8,10.55) 172(-4.2,10.55) 173(-4.6,10.55) 174(-5,10.55) 175(-5.4,10.55) 176(-5.8,10.55) 177(-6.2,10.55) 178(-6.6,10.55) 179(-7,10.55) 180(-7.4,10.55) 181(-7.8,10.55) 182(-8.2,10.55) 183(-8.6,10.55) 184(-9,10.55)
Top Overlay:
  circle w0.6: c-8.25,8.25 r0.3
  circle w0.25: c-10.55,9.67 r0.125
  lines w0.2: -9.25,-9.25 9.25,-9.25 9.25,9.25 -9.25,9.25 -9.25,-9.25
Mechanical 13:
  circle w0.1: c-9.1,9.1 r0.5
  lines w0.1: -10,-10 10,-10 10,10 -10,10 -10,-10
Mechanical 15:
  lines w0.1: -0.5,0 0.5,0 ; 0,-0.5 0,0.5 ; -11.7,-11.7 11.7,-11.7 11.7,11.7 -11.7,11.7 -11.7,-11.7
3D body: height 2.7, standoff 0, extent -10,-10 10,10

## SQFP40P2200X2200-192N [mm] "Shrink QFP, 192-Leads, Body 20x20mm, Pitch 0.4mm, IPC Medium Density"
height 2.7
pads (192):
  oval 1.75x0.24 smd: 1(-10.575,9.4) 2(-10.575,9) 3(-10.575,8.6) 4(-10.575,8.2) 5(-10.575,7.8) 6(-10.575,7.4) 7(-10.575,7) 8(-10.575,6.6) 9(-10.575,6.2) 10(-10.575,5.8) 11(-10.575,5.4) 12(-10.575,5) 13(-10.575,4.6) 14(-10.575,4.2) 15(-10.575,3.8) 16(-10.575,3.4) 17(-10.575,3) 18(-10.575,2.6) 19(-10.575,2.2) 20(-10.575,1.8) 21(-10.575,1.4) 22(-10.575,1) 23(-10.575,0.6) 24(-10.575,0.2) 25(-10.575,-0.2) 26(-10.575,-0.6) 27(-10.575,-1) 28(-10.575,-1.4) 29(-10.575,-1.8) 30(-10.575,-2.2) 31(-10.575,-2.6) 32(-10.575,-3) 33(-10.575,-3.4) 34(-10.575,-3.8) 35(-10.575,-4.2) 36(-10.575,-4.6) 37(-10.575,-5) 38(-10.575,-5.4) 39(-10.575,-5.8) 40(-10.575,-6.2) 41(-10.575,-6.6) 42(-10.575,-7) 43(-10.575,-7.4) 44(-10.575,-7.8) 45(-10.575,-8.2) 46(-10.575,-8.6) 47(-10.575,-9) 48(-10.575,-9.4) 97(10.575,-9.4) 98(10.575,-9) 99(10.575,-8.6) 100(10.575,-8.2) 101(10.575,-7.8) 102(10.575,-7.4) 103(10.575,-7) 104(10.575,-6.6) 105(10.575,-6.2) 106(10.575,-5.8) 107(10.575,-5.4) 108(10.575,-5) 109(10.575,-4.6) 110(10.575,-4.2) 111(10.575,-3.8) 112(10.575,-3.4) 113(10.575,-3) 114(10.575,-2.6) 115(10.575,-2.2) 116(10.575,-1.8) 117(10.575,-1.4) 118(10.575,-1) 119(10.575,-0.6) 120(10.575,-0.2) 121(10.575,0.2) 122(10.575,0.6) 123(10.575,1) 124(10.575,1.4) 125(10.575,1.8) 126(10.575,2.2) 127(10.575,2.6) 128(10.575,3) 129(10.575,3.4) 130(10.575,3.8) 131(10.575,4.2) 132(10.575,4.6) 133(10.575,5) 134(10.575,5.4) 135(10.575,5.8) 136(10.575,6.2) 137(10.575,6.6) 138(10.575,7) 139(10.575,7.4) 140(10.575,7.8) 141(10.575,8.2) 142(10.575,8.6) 143(10.575,9) 144(10.575,9.4)
  oval 0.24x1.75 smd: 49(-9.4,-10.575) 50(-9,-10.575) 51(-8.6,-10.575) 52(-8.2,-10.575) 53(-7.8,-10.575) 54(-7.4,-10.575) 55(-7,-10.575) 56(-6.6,-10.575) 57(-6.2,-10.575) 58(-5.8,-10.575) 59(-5.4,-10.575) 60(-5,-10.575) 61(-4.6,-10.575) 62(-4.2,-10.575) 63(-3.8,-10.575) 64(-3.4,-10.575) 65(-3,-10.575) 66(-2.6,-10.575) 67(-2.2,-10.575) 68(-1.8,-10.575) 69(-1.4,-10.575) 70(-1,-10.575) 71(-0.6,-10.575) 72(-0.2,-10.575) 73(0.2,-10.575) 74(0.6,-10.575) 75(1,-10.575) 76(1.4,-10.575) 77(1.8,-10.575) 78(2.2,-10.575) 79(2.6,-10.575) 80(3,-10.575) 81(3.4,-10.575) 82(3.8,-10.575) 83(4.2,-10.575) 84(4.6,-10.575) 85(5,-10.575) 86(5.4,-10.575) 87(5.8,-10.575) 88(6.2,-10.575) 89(6.6,-10.575) 90(7,-10.575) 91(7.4,-10.575) 92(7.8,-10.575) 93(8.2,-10.575) 94(8.6,-10.575) 95(9,-10.575) 96(9.4,-10.575) 145(9.4,10.575) 146(9,10.575) 147(8.6,10.575) 148(8.2,10.575) 149(7.8,10.575) 150(7.4,10.575) 151(7,10.575) 152(6.6,10.575) 153(6.2,10.575) 154(5.8,10.575) 155(5.4,10.575) 156(5,10.575) 157(4.6,10.575) 158(4.2,10.575) 159(3.8,10.575) 160(3.4,10.575) 161(3,10.575) 162(2.6,10.575) 163(2.2,10.575) 164(1.8,10.575) 165(1.4,10.575) 166(1,10.575) 167(0.6,10.575) 168(0.2,10.575) 169(-0.2,10.575) 170(-0.6,10.575) 171(-1,10.575) 172(-1.4,10.575) 173(-1.8,10.575) 174(-2.2,10.575) 175(-2.6,10.575) 176(-3,10.575) 177(-3.4,10.575) 178(-3.8,10.575) 179(-4.2,10.575) 180(-4.6,10.575) 181(-5,10.575) 182(-5.4,10.575) 183(-5.8,10.575) 184(-6.2,10.575) 185(-6.6,10.575) 186(-7,10.575) 187(-7.4,10.575) 188(-7.8,10.575) 189(-8.2,10.575) 190(-8.6,10.575) 191(-9,10.575) 192(-9.4,10.575)
Top Overlay:
  circle w0.6: c-8.3,8.3 r0.3
  circle w0.25: c-10.575,10.07 r0.125
  lines w0.2: -9.3,-9.3 9.3,-9.3 9.3,9.3 -9.3,9.3 -9.3,-9.3
Mechanical 13:
  circle w0.1: c-9.1,9.1 r0.5
  lines w0.1: -10,-10 10,-10 10,10 -10,10 -10,-10
Mechanical 15:
  lines w0.1: -0.5,0 0.5,0 ; 0,-0.5 0,0.5 ; -11.7,-11.7 11.7,-11.7 11.7,11.7 -11.7,11.7 -11.7,-11.7
3D body: height 2.7, standoff 0, extent -10,-10 10,10

## SQFP40P2600X2600-224N [mm] "Shrink QFP, 224-Leads, Body 24x24mm, Pitch 0.4mm, IPC Medium Density"
height 3.2
pads (224):
  oval 1.8x0.24 smd: 1(-12.55,11) 2(-12.55,10.6) 3(-12.55,10.2) 4(-12.55,9.8) 5(-12.55,9.4) 6(-12.55,9) 7(-12.55,8.6) 8(-12.55,8.2) 9(-12.55,7.8) 10(-12.55,7.4) 11(-12.55,7) 12(-12.55,6.6) 13(-12.55,6.2) 14(-12.55,5.8) 15(-12.55,5.4) 16(-12.55,5) 17(-12.55,4.6) 18(-12.55,4.2) 19(-12.55,3.8) 20(-12.55,3.4) 21(-12.55,3) 22(-12.55,2.6) 23(-12.55,2.2) 24(-12.55,1.8) 25(-12.55,1.4) 26(-12.55,1) 27(-12.55,0.6) 28(-12.55,0.2) 29(-12.55,-0.2) 30(-12.55,-0.6) 31(-12.55,-1) 32(-12.55,-1.4) 33(-12.55,-1.8) 34(-12.55,-2.2) 35(-12.55,-2.6) 36(-12.55,-3) 37(-12.55,-3.4) 38(-12.55,-3.8) 39(-12.55,-4.2) 40(-12.55,-4.6) 41(-12.55,-5) 42(-12.55,-5.4) 43(-12.55,-5.8) 44(-12.55,-6.2) 45(-12.55,-6.6) 46(-12.55,-7) 47(-12.55,-7.4) 48(-12.55,-7.8) 49(-12.55,-8.2) 50(-12.55,-8.6) 51(-12.55,-9) 52(-12.55,-9.4) 53(-12.55,-9.8) 54(-12.55,-10.2) 55(-12.55,-10.6) 56(-12.55,-11) 113(12.55,-11) 114(12.55,-10.6) 115(12.55,-10.2) 116(12.55,-9.8) 117(12.55,-9.4) 118(12.55,-9) 119(12.55,-8.6) 120(12.55,-8.2) 121(12.55,-7.8) 122(12.55,-7.4) 123(12.55,-7) 124(12.55,-6.6) 125(12.55,-6.2) 126(12.55,-5.8) 127(12.55,-5.4) 128(12.55,-5) 129(12.55,-4.6) 130(12.55,-4.2) 131(12.55,-3.8) 132(12.55,-3.4) 133(12.55,-3) 134(12.55,-2.6) 135(12.55,-2.2) 136(12.55,-1.8) 137(12.55,-1.4) 138(12.55,-1) 139(12.55,-0.6) 140(12.55,-0.2) 141(12.55,0.2) 142(12.55,0.6) 143(12.55,1) 144(12.55,1.4) 145(12.55,1.8) 146(12.55,2.2) 147(12.55,2.6) 148(12.55,3) 149(12.55,3.4) 150(12.55,3.8) 151(12.55,4.2) 152(12.55,4.6) 153(12.55,5) 154(12.55,5.4) 155(12.55,5.8) 156(12.55,6.2) 157(12.55,6.6) 158(12.55,7) 159(12.55,7.4) 160(12.55,7.8) 161(12.55,8.2) 162(12.55,8.6) 163(12.55,9) 164(12.55,9.4) 165(12.55,9.8) 166(12.55,10.2) 167(12.55,10.6) 168(12.55,11)
  oval 0.24x1.8 smd: 57(-11,-12.55) 58(-10.6,-12.55) 59(-10.2,-12.55) 60(-9.8,-12.55) 61(-9.4,-12.55) 62(-9,-12.55) 63(-8.6,-12.55) 64(-8.2,-12.55) 65(-7.8,-12.55) 66(-7.4,-12.55) 67(-7,-12.55) 68(-6.6,-12.55) 69(-6.2,-12.55) 70(-5.8,-12.55) 71(-5.4,-12.55) 72(-5,-12.55) 73(-4.6,-12.55) 74(-4.2,-12.55) 75(-3.8,-12.55) 76(-3.4,-12.55) 77(-3,-12.55) 78(-2.6,-12.55) 79(-2.2,-12.55) 80(-1.8,-12.55) 81(-1.4,-12.55) 82(-1,-12.55) 83(-0.6,-12.55) 84(-0.2,-12.55) 85(0.2,-12.55) 86(0.6,-12.55) 87(1,-12.55) 88(1.4,-12.55) 89(1.8,-12.55) 90(2.2,-12.55) 91(2.6,-12.55) 92(3,-12.55) 93(3.4,-12.55) 94(3.8,-12.55) 95(4.2,-12.55) 96(4.6,-12.55) 97(5,-12.55) 98(5.4,-12.55) 99(5.8,-12.55) 100(6.2,-12.55) 101(6.6,-12.55) 102(7,-12.55) 103(7.4,-12.55) 104(7.8,-12.55) 105(8.2,-12.55) 106(8.6,-12.55) 107(9,-12.55) 108(9.4,-12.55) 109(9.8,-12.55) 110(10.2,-12.55) 111(10.6,-12.55) 112(11,-12.55) 169(11,12.55) 170(10.6,12.55) 171(10.2,12.55) 172(9.8,12.55) 173(9.4,12.55) 174(9,12.55) 175(8.6,12.55) 176(8.2,12.55) 177(7.8,12.55) 178(7.4,12.55) 179(7,12.55) 180(6.6,12.55) 181(6.2,12.55) 182(5.8,12.55) 183(5.4,12.55) 184(5,12.55) 185(4.6,12.55) 186(4.2,12.55) 187(3.8,12.55) 188(3.4,12.55) 189(3,12.55) 190(2.6,12.55) 191(2.2,12.55) 192(1.8,12.55) 193(1.4,12.55) 194(1,12.55) 195(0.6,12.55) 196(0.2,12.55) 197(-0.2,12.55) 198(-0.6,12.55) 199(-1,12.55) 200(-1.4,12.55) 201(-1.8,12.55) 202(-2.2,12.55) 203(-2.6,12.55) 204(-3,12.55) 205(-3.4,12.55) 206(-3.8,12.55) 207(-4.2,12.55) 208(-4.6,12.55) 209(-5,12.55) 210(-5.4,12.55) 211(-5.8,12.55) 212(-6.2,12.55) 213(-6.6,12.55) 214(-7,12.55) 215(-7.4,12.55) 216(-7.8,12.55) 217(-8.2,12.55) 218(-8.6,12.55) 219(-9,12.55) 220(-9.4,12.55) 221(-9.8,12.55) 222(-10.2,12.55) 223(-10.6,12.55) 224(-11,12.55)
Top Overlay:
  circle w0.6: c-10.25,10.25 r0.3
  circle w0.25: c-12.55,11.67 r0.125
  lines w0.2: -11.25,-11.25 11.25,-11.25 11.25,11.25 -11.25,11.25 -11.25,-11.25
Mechanical 13:
  circle w0.1: c-11.1,11.1 r0.5
  lines w0.1: -12,-12 12,-12 12,12 -12,12 -12,-12
Mechanical 15:
  lines w0.1: -0.5,0 0.5,0 ; 0,-0.5 0,0.5 ; -13.7,-13.7 13.7,-13.7 13.7,13.7 -13.7,13.7 -13.7,-13.7
3D body: height 3.2, standoff 0, extent -12,-12 12,12

## SQFP40P2600X2600-232N [mm] "Shrink QFP, 232-Leads, Body 24x24mm, Pitch 0.4mm, IPC Medium Density"
height 3.2
pads (232):
  oval 1.75x0.24 smd: 1(-12.575,11.4) 2(-12.575,11) 3(-12.575,10.6) 4(-12.575,10.2) 5(-12.575,9.8) 6(-12.575,9.4) 7(-12.575,9) 8(-12.575,8.6) 9(-12.575,8.2) 10(-12.575,7.8) 11(-12.575,7.4) 12(-12.575,7) 13(-12.575,6.6) 14(-12.575,6.2) 15(-12.575,5.8) 16(-12.575,5.4) 17(-12.575,5) 18(-12.575,4.6) 19(-12.575,4.2) 20(-12.575,3.8) 21(-12.575,3.4) 22(-12.575,3) 23(-12.575,2.6) 24(-12.575,2.2) 25(-12.575,1.8) 26(-12.575,1.4) 27(-12.575,1) 28(-12.575,0.6) 29(-12.575,0.2) 30(-12.575,-0.2) 31(-12.575,-0.6) 32(-12.575,-1) 33(-12.575,-1.4) 34(-12.575,-1.8) 35(-12.575,-2.2) 36(-12.575,-2.6) 37(-12.575,-3) 38(-12.575,-3.4) 39(-12.575,-3.8) 40(-12.575,-4.2) 41(-12.575,-4.6) 42(-12.575,-5) 43(-12.575,-5.4) 44(-12.575,-5.8) 45(-12.575,-6.2) 46(-12.575,-6.6) 47(-12.575,-7) 48(-12.575,-7.4) 49(-12.575,-7.8) 50(-12.575,-8.2) 51(-12.575,-8.6) 52(-12.575,-9) 53(-12.575,-9.4) 54(-12.575,-9.8) 55(-12.575,-10.2) 56(-12.575,-10.6) 57(-12.575,-11) 58(-12.575,-11.4) 117(12.575,-11.4) 118(12.575,-11) 119(12.575,-10.6) 120(12.575,-10.2) 121(12.575,-9.8) 122(12.575,-9.4) 123(12.575,-9) 124(12.575,-8.6) 125(12.575,-8.2) 126(12.575,-7.8) 127(12.575,-7.4) 128(12.575,-7) 129(12.575,-6.6) 130(12.575,-6.2) 131(12.575,-5.8) 132(12.575,-5.4) 133(12.575,-5) 134(12.575,-4.6) 135(12.575,-4.2) 136(12.575,-3.8) 137(12.575,-3.4) 138(12.575,-3) 139(12.575,-2.6) 140(12.575,-2.2) 141(12.575,-1.8) 142(12.575,-1.4) 143(12.575,-1) 144(12.575,-0.6) 145(12.575,-0.2) 146(12.575,0.2) 147(12.575,0.6) 148(12.575,1) 149(12.575,1.4) 150(12.575,1.8) 151(12.575,2.2) 152(12.575,2.6) 153(12.575,3) 154(12.575,3.4) 155(12.575,3.8) 156(12.575,4.2) 157(12.575,4.6) 158(12.575,5) 159(12.575,5.4) 160(12.575,5.8) 161(12.575,6.2) 162(12.575,6.6) 163(12.575,7) 164(12.575,7.4) 165(12.575,7.8) 166(12.575,8.2) 167(12.575,8.6) 168(12.575,9) 169(12.575,9.4) 170(12.575,9.8) 171(12.575,10.2) 172(12.575,10.6) 173(12.575,11) 174(12.575,11.4)
  oval 0.24x1.75 smd: 59(-11.4,-12.575) 60(-11,-12.575) 61(-10.6,-12.575) 62(-10.2,-12.575) 63(-9.8,-12.575) 64(-9.4,-12.575) 65(-9,-12.575) 66(-8.6,-12.575) 67(-8.2,-12.575) 68(-7.8,-12.575) 69(-7.4,-12.575) 70(-7,-12.575) 71(-6.6,-12.575) 72(-6.2,-12.575) 73(-5.8,-12.575) 74(-5.4,-12.575) 75(-5,-12.575) 76(-4.6,-12.575) 77(-4.2,-12.575) 78(-3.8,-12.575) 79(-3.4,-12.575) 80(-3,-12.575) 81(-2.6,-12.575) 82(-2.2,-12.575) 83(-1.8,-12.575) 84(-1.4,-12.575) 85(-1,-12.575) 86(-0.6,-12.575) 87(-0.2,-12.575) 88(0.2,-12.575) 89(0.6,-12.575) 90(1,-12.575) 91(1.4,-12.575) 92(1.8,-12.575) 93(2.2,-12.575) 94(2.6,-12.575) 95(3,-12.575) 96(3.4,-12.575) 97(3.8,-12.575) 98(4.2,-12.575) 99(4.6,-12.575) 100(5,-12.575) 101(5.4,-12.575) 102(5.8,-12.575) 103(6.2,-12.575) 104(6.6,-12.575) 105(7,-12.575) 106(7.4,-12.575) 107(7.8,-12.575) 108(8.2,-12.575) 109(8.6,-12.575) 110(9,-12.575) 111(9.4,-12.575) 112(9.8,-12.575) 113(10.2,-12.575) 114(10.6,-12.575) 115(11,-12.575) 116(11.4,-12.575) 175(11.4,12.575) 176(11,12.575) 177(10.6,12.575) 178(10.2,12.575) 179(9.8,12.575) 180(9.4,12.575) 181(9,12.575) 182(8.6,12.575) 183(8.2,12.575) 184(7.8,12.575) 185(7.4,12.575) 186(7,12.575) 187(6.6,12.575) 188(6.2,12.575) 189(5.8,12.575) 190(5.4,12.575) 191(5,12.575) 192(4.6,12.575) 193(4.2,12.575) 194(3.8,12.575) 195(3.4,12.575) 196(3,12.575) 197(2.6,12.575) 198(2.2,12.575) 199(1.8,12.575) 200(1.4,12.575) 201(1,12.575) 202(0.6,12.575) 203(0.2,12.575) 204(-0.2,12.575) 205(-0.6,12.575) 206(-1,12.575) 207(-1.4,12.575) 208(-1.8,12.575) 209(-2.2,12.575) 210(-2.6,12.575) 211(-3,12.575) 212(-3.4,12.575) 213(-3.8,12.575) 214(-4.2,12.575) 215(-4.6,12.575) 216(-5,12.575) 217(-5.4,12.575) 218(-5.8,12.575) 219(-6.2,12.575) 220(-6.6,12.575) 221(-7,12.575) 222(-7.4,12.575) 223(-7.8,12.575) 224(-8.2,12.575) 225(-8.6,12.575) 226(-9,12.575) 227(-9.4,12.575) 228(-9.8,12.575) 229(-10.2,12.575) 230(-10.6,12.575) 231(-11,12.575) 232(-11.4,12.575)
Top Overlay:
  circle w0.6: c-10.3,10.3 r0.3
  circle w0.25: c-12.575,12.07 r0.125
  lines w0.2: -11.3,-11.3 11.3,-11.3 11.3,11.3 -11.3,11.3 -11.3,-11.3
Mechanical 13:
  circle w0.1: c-11.1,11.1 r0.5
  lines w0.1: -12,-12 12,-12 12,12 -12,12 -12,-12
Mechanical 15:
  lines w0.1: -0.5,0 0.5,0 ; 0,-0.5 0,0.5 ; -13.7,-13.7 13.7,-13.7 13.7,13.7 -13.7,13.7 -13.7,-13.7
3D body: height 3.2, standoff 0, extent -12,-12 12,12